# Altium footprint library power.PcbLib: 17 footprints (part 1 of 2)
Each footprint in its own frame and in the unit in brackets; x right, y up, seen from the top. Pads: shape width x height; smd on the part's side, far side on the other; paste and mask are expansions set on the pad; w line width, h text height; cw(c..) or ccw(c..) is an arc to the next point about the centre after c.
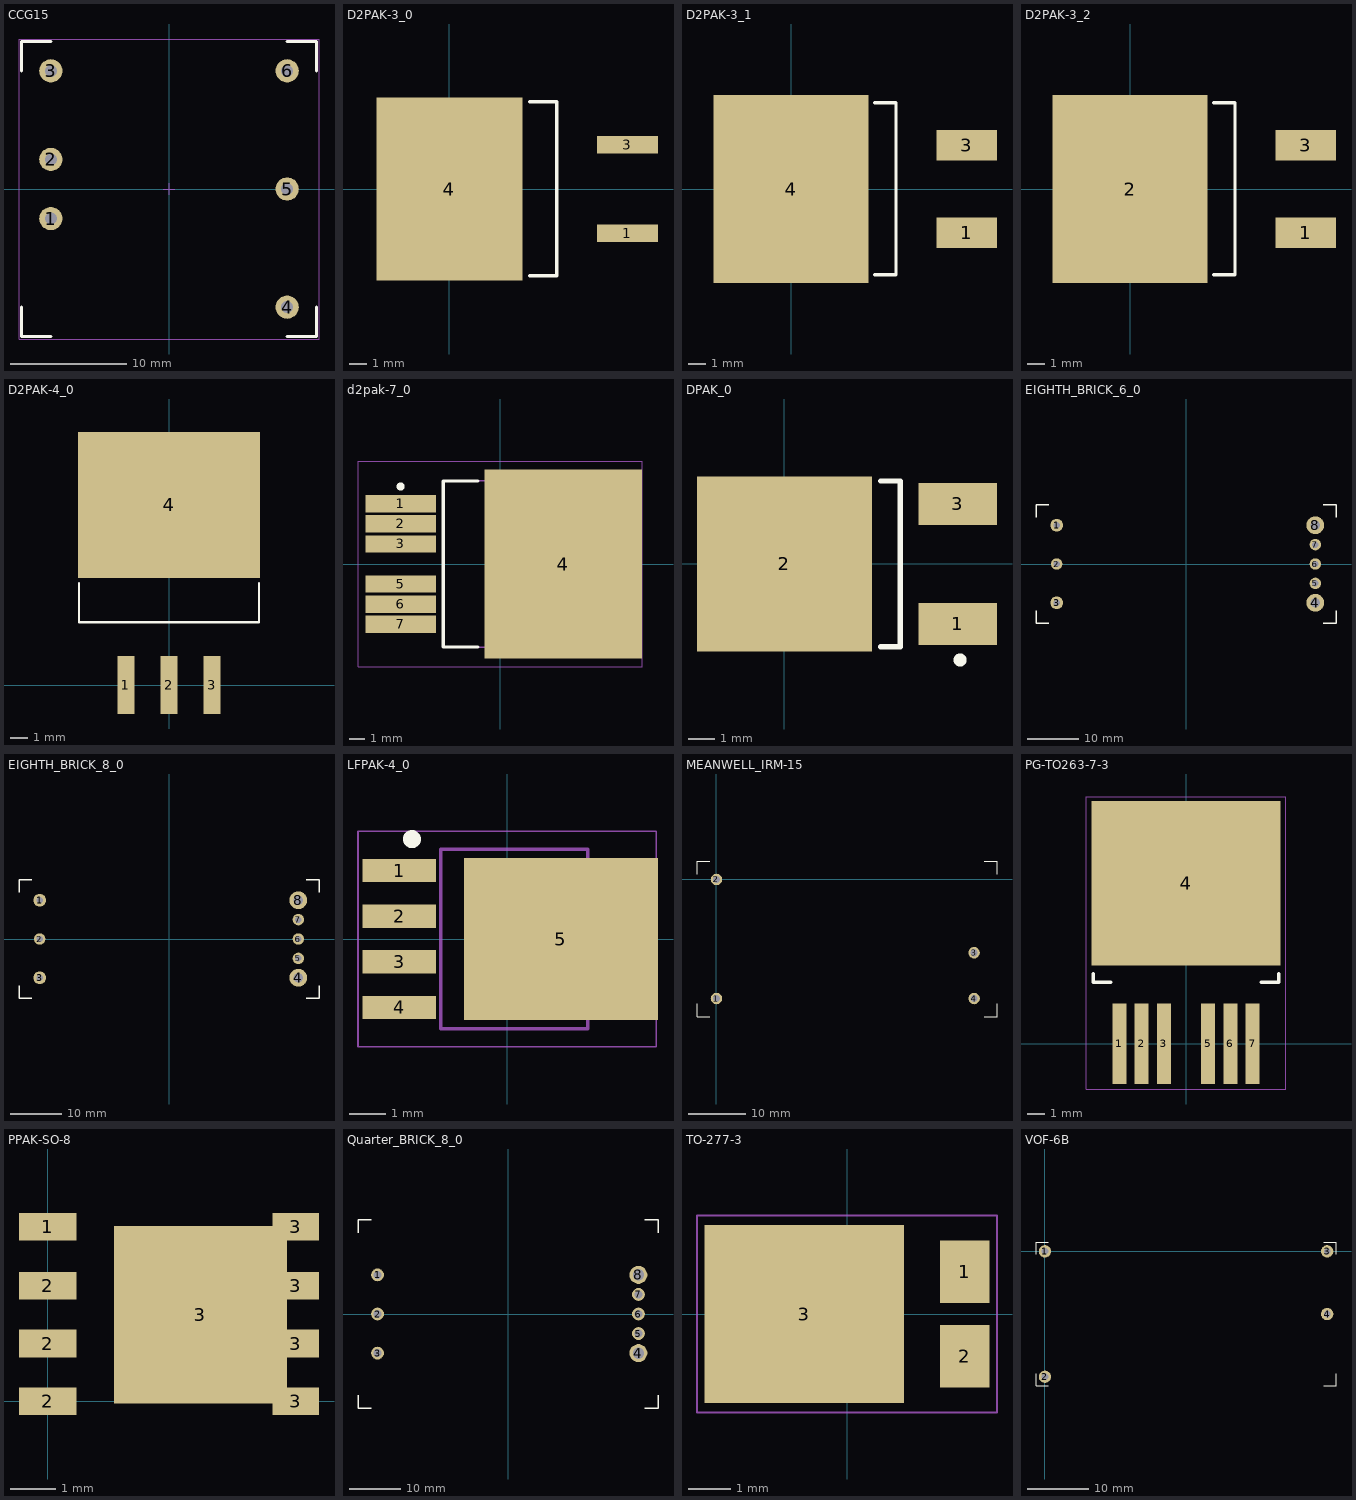
[diagram p0: the footprints below, top view; thin cyan lines are the x and y axes]

## CCG15 [mm] "Isolated DC/DC converter, TDK-Lambda CCG15 series"
pads (6):
  round 2 hole 1.05: 1(-10.16,-2.54) 2(-10.16,2.54) 3(-10.16,10.16) 4(10.16,-10.16) 5(10.16,0) 6(10.16,10.16)
Top Overlay:
  lines w0.254: -12.7,-10.16 -12.7,-12.7 -10.16,-12.7 ; -12.7,10.16 -12.7,12.7 -10.16,12.7 ; 10.16,-12.7 12.7,-12.7 12.7,-10.16 ; 10.16,12.7 12.7,12.7 12.7,10.16
Mechanical 15:
  lines w0.05: -12.9,-12.9 -12.9,12.9 12.9,12.9 12.9,-12.9 -12.9,-12.9
  lines w0.1: -0.5,0 0.5,0 ; 0,-0.5 0,0.5
3D body: height 9.9, standoff 0, extent -12.7,-12.7 12.7,12.7
3D body: height 0.25, standoff -26.8, extent -12.7,9.7 -12.7,9.7

## D2PAK-3_0 [mm]
pads (3):
  rect 3.504x1.016 smd: 1(10.213,-2.54) 3(10.213,2.54)
  rect 8.38x10.49 smd: 4(0,0)
Top Overlay:
  lines w0.2: 4.6,-4.975 6.15,-4.975 6.15,5 4.6,5
3D body: height 1.25, standoff 0, extent -4,-5 -3.3,5
3D body "TO263-2-1.stp": height 4.22, standoff 0, extent -3.786,-4.911 10.8,4.911

## D2PAK-3_1 [mm] "slightly larger pads that *_0"
pads (3):
  rect 3.504x1.78 smd: 1(10.213,-2.54) 3(10.213,2.54)
  rect 9.02x10.92 smd: 4(0,0)
Top Overlay:
  lines w0.2: 4.85,-4.975 6.1,-4.975 6.1,5 4.85,5
3D body: height 1.25, standoff 0, extent -4,-5 -3.3,5
3D body "TO263-2-1.stp": height 4.22, standoff 0, extent -3.841,-4.861 10.744,4.961

## D2PAK-3_2 [mm] "Body/Tab is pin 2 instead of pin 4"
pads (3):
  rect 3.504x1.78 smd: 1(10.213,-2.54) 3(10.213,2.54)
  rect 9.02x10.92 smd: 2(0,0)
Top Overlay:
  lines w0.2: 4.85,-4.975 6.1,-4.975 6.1,5 4.85,5
3D body: height 1.25, standoff 0, extent -4,-5 -3.3,5
3D body "TO263-2-1.stp": height 4.22, standoff 0, extent -3.841,-4.861 10.744,4.961

## D2PAK-4_0 [mm]
pads (4):
  rect 1x3.4 smd: 1(-2.54,0) 2(0,0) 3(2.54,0)
  rect 10.7x8.6 smd: 4(0,10.6)
Top Overlay:
  lines w0.127: -5.3,6 -5.3,3.7 5.3,3.7 5.3,6
3D body: height 4.83, standoff 0, extent -5,4 5,13.5

## d2pak-7_0 [mm] "D2-Pak, 7 pin, Large Thermal Pad"
height 4.83
pads (7):
  rect 4.45x1.1 smd: 1(-6.3,3.81) 2(-6.3,2.54) 3(-6.3,1.27) 5(-6.3,-1.27) 6(-6.3,-2.54) 7(-6.3,-3.81)
  rect 10x12 smd: 4(4,0)
Top Overlay:
  circle w0.25: c-6.3,4.91 r0.125
  lines w0.2: -1.4,-5.25 -3.6,-5.25 -3.6,5.25 -1.4,5.25
Mechanical 13:
  lines w0.1: -3.6,-5.275 6.05,-5.275 6.05,5.275 -3.6,5.275 -3.6,-5.275
Mechanical 15:
  lines w0.05: -9,-6.5 9,-6.5 9,6.5 -9,6.5 -9,-6.5
  lines w0.1: -0.5,0 0.5,0 ; 0,-0.5 0,0.5
3D body: height 4.83, standoff 0, extent -3.6,-5.275 6.05,5.275

## DPAK_0 [mm] "DPAK"
pads (3):
  rect 3x1.6 smd: 1(6.65,-2.3) 3(6.65,2.3)
  rect 6.7x6.7 smd: 2(0,0)
Top Overlay:
  circle w0.25: c6.731,-3.683 r0.125
  lines w0.2: 3.683,-3.175 4.445,-3.175 4.445,3.175 3.683,3.175

## EIGHTH_BRICK_6_0 [mm] "Eighth-Brick Power Module, 6-pin"
pads (8):
  round 2.5 hole 1.25: 1(-25.4,7.62) 3(-25.4,-7.62)
  round 2.25 hole 1.25: 2(-25.4,0) 5(25.4,-3.81) 6(25.4,0) 7(25.4,3.81)
  round 3.5 hole 1.9: 4(25.4,-7.62) 8(25.4,7.62)
Top Overlay:
  lines w0.254: -29.464,-9.144 -29.464,-11.684 -26.924,-11.684 ; -29.464,9.144 -29.464,11.684 -26.924,11.684 ; 26.924,-11.684 29.464,-11.684 29.464,-9.144 ; 26.924,11.684 29.464,11.684 29.464,9.144
3D body: height 9.65, standoff 0.25, extent -29.2,-11.5 29.2,11.5

## EIGHTH_BRICK_8_0 [mm] "Eighth-Brick Power Module, 8-pin"
pads (8):
  round 2.5 hole 1.25: 1(-25.4,7.62) 3(-25.4,-7.62)
  round 2.25 hole 1.25: 2(-25.4,0) 5(25.4,-3.81) 6(25.4,0) 7(25.4,3.81)
  round 3.5 hole 1.9: 4(25.4,-7.62) 8(25.4,7.62)
Top Overlay:
  lines w0.254: -29.464,-9.144 -29.464,-11.684 -26.924,-11.684 ; -29.464,9.144 -29.464,11.684 -26.924,11.684 ; 26.924,-11.684 29.464,-11.684 29.464,-9.144 ; 26.924,11.684 29.464,11.684 29.464,9.144
3D body: height 9.65, standoff 0.25, extent -29.2,-11.5 29.2,11.5

## LFPAK-4_0 [mm] "TO, 5-Pads, Body 5.15x5.86mm (max), IPC Low Density"
height 1.2
pads (5):
  rect 2.05x0.65 smd: 1(-3,1.905) 2(-3,0.635) 3(-3,-0.635) 4(-3,-1.905)
  rect 5.4x4.5 smd: 5(1.5,0)
Top Overlay:
  circle w0.25: c-2.65,2.78 r0.125
Mechanical 13:
  lines w0.1: -1.85,-2.5 2.25,-2.5 2.25,2.5 -1.85,2.5 -1.85,-2.5
Mechanical 15:
  lines w0.05: -4.15,-3 4.15,-3 4.15,3 -4.15,3 -4.15,-3
  lines w0.1: -0.5,0 0.5,0 ; 0,-0.5 0,0.5
3D body: height 1.2, standoff 0, extent -1.85,-2.5 2.25,2.5

## MEANWELL_IRM-15 [mm] "MEANWELL IRM-15 power module"
pads (4):
  round 2 hole 1.25: 1(0,-20.8) 2(0,0) 3(45,-12.8) 4(45,-20.8)
Top Overlay:
  lines w0.2: -3.4,-21.75 -3.4,-24 -1.15,-24 ; -3.4,0.95 -3.4,3.2 -1.15,3.2 ; 46.75,-24 49,-24 49,-21.75 ; 46.75,3.2 49,3.2 49,0.95
3D body: height 24, standoff 0, extent -3.4,-24 49,3.2

## PG-TO263-7-3 [mm] "Power Transistor Package"
pads (7):
  rect 0.8x4.6 smd: 1(-3.81,0) 2(-2.54,0) 3(-1.27,0) 5(1.27,0) 6(2.54,0) 7(3.81,0)
  rect 10.8x9.4 smd: 4(0,9.15)
Top Overlay:
  lines w0.2: -5.3,4 -5.3,3.5 -4.3,3.5 ; 4.3,3.5 5.3,3.5 5.3,4
Mechanical 15:
  lines w0.05: -5.7,-2.6 -5.7,14.1 5.7,14.1 5.7,-2.6 -5.7,-2.6
3D body: height 4.4, standoff 0, extent -5.3,3.5 5.3,12.8
3D body: height 1.27, standoff 0, extent -5.3,3.5 5.3,13.8

## PPAK-SO-8 [mm] "PowerPAK SO-8"
pads (9):
  rect 1.27x0.61 smd: 1(0,3.84) 2(0,0) 2(0,1.27) 2(0,2.54)
  rect 3.81x3.91 smd: 3(3.36,1.905)
  rect 1.02x0.61 smd: 3(5.465,0) 3(5.465,1.27) 3(5.465,2.54) 3(5.465,3.84)

## Quarter_BRICK_8_0 [mm] "Eighth-Brick Power Module, 8-pin"
pads (8):
  round 2.5 hole 1.6: 1(-25.4,7.62) 2(-25.4,0) 3(-25.4,-7.62) 5(25.4,-3.81) 6(25.4,0) 7(25.4,3.81)
  round 3.5 hole 2.2: 4(25.4,-7.62) 8(25.4,7.62)
Top Overlay:
  lines w0.254: -29.214,-15.844 -29.214,-18.384 -26.674,-18.384 ; -29.214,15.844 -29.214,18.384 -26.674,18.384 ; 26.674,-18.384 29.214,-18.384 29.214,-15.844 ; 26.674,18.384 29.214,18.384 29.214,15.844
3D body: height 12.7, standoff 0, extent -29.2,-18.35 29.2,18.4

## TO-277-3 [mm] "TO-277 3-pin"
pads (3):
  rect 1.15x1.45 smd: 1(2.75,0.985) 2(2.75,-0.985)
  rect 4.65x4.15 smd: 3(-1,0)
Mechanical 15:
  lines w0.05: -0.15,0 0.15,0 ; 0,-0.15 0,0.15 ; -3.5,-2.3 3.5,-2.3 3.5,2.3 -3.5,2.3 -3.5,-2.3

## VOF-6B [mm] "CUI AC/DC Converter Module"
pads (4):
  round 2 hole 1.1: 1(0,0) 2(0,-20.32) 3(45.72,0) 4(45.72,-10.16)
Top Overlay:
  lines w0.127: -1.45,-19.8 -1.45,-21.8 0.55,-21.8 ; -1.45,-0.5 -1.45,1.5 0.55,1.5 ; 45.15,-21.8 47.15,-21.8 47.15,-19.8 ; 45.15,1.5 47.15,1.5 47.15,-0.5
3D body "CUI_vof-6b-s5.SLDPRT": height 15.76, standoff -3.74, extent -1.45,-21.8 47.148,1.5